# Altium schematic symbol library SCH - DRIVER - LED - TI TPS92663-Q1PWP.SchLib: 1 symbol
Pins are listed as number, name and electrical type; pins without a type are passive.

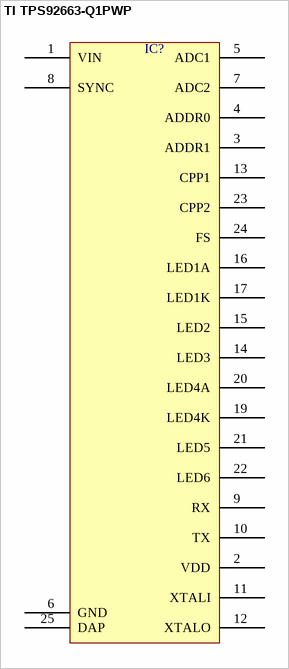
[diagram p0: symbol TI TPS92663-Q1PWP]

## TI TPS92663-Q1PWP
designator IC?  (value not drawn)
pins: 1 VIN, 2 VDD, 3 ADDR1, 4 ADDR0, 5 ADC1, 6 GND, 7 ADC2, 8 SYNC, 9 RX, 10 TX, 11 XTALI, 12 XTALO, 13 CPP1, 14 LED3, 15 LED2, 16 LED1A, 17 LED1K, 19 LED4K, 20 LED4A, 21 LED5, 22 LED6, 23 CPP2, 24 FS, 25 DAP